# Altium footprint library RadYaab_v11.PcbLib: 44 footprints (part 1 of 3)
Each footprint in its own frame and in the unit in brackets; x right, y up, seen from the top. Pads: shape width x height; smd on the part's side, far side on the other; paste and mask are expansions set on the pad; w line width, h text height; cw(c..) or ccw(c..) is an arc to the next point about the centre after c.
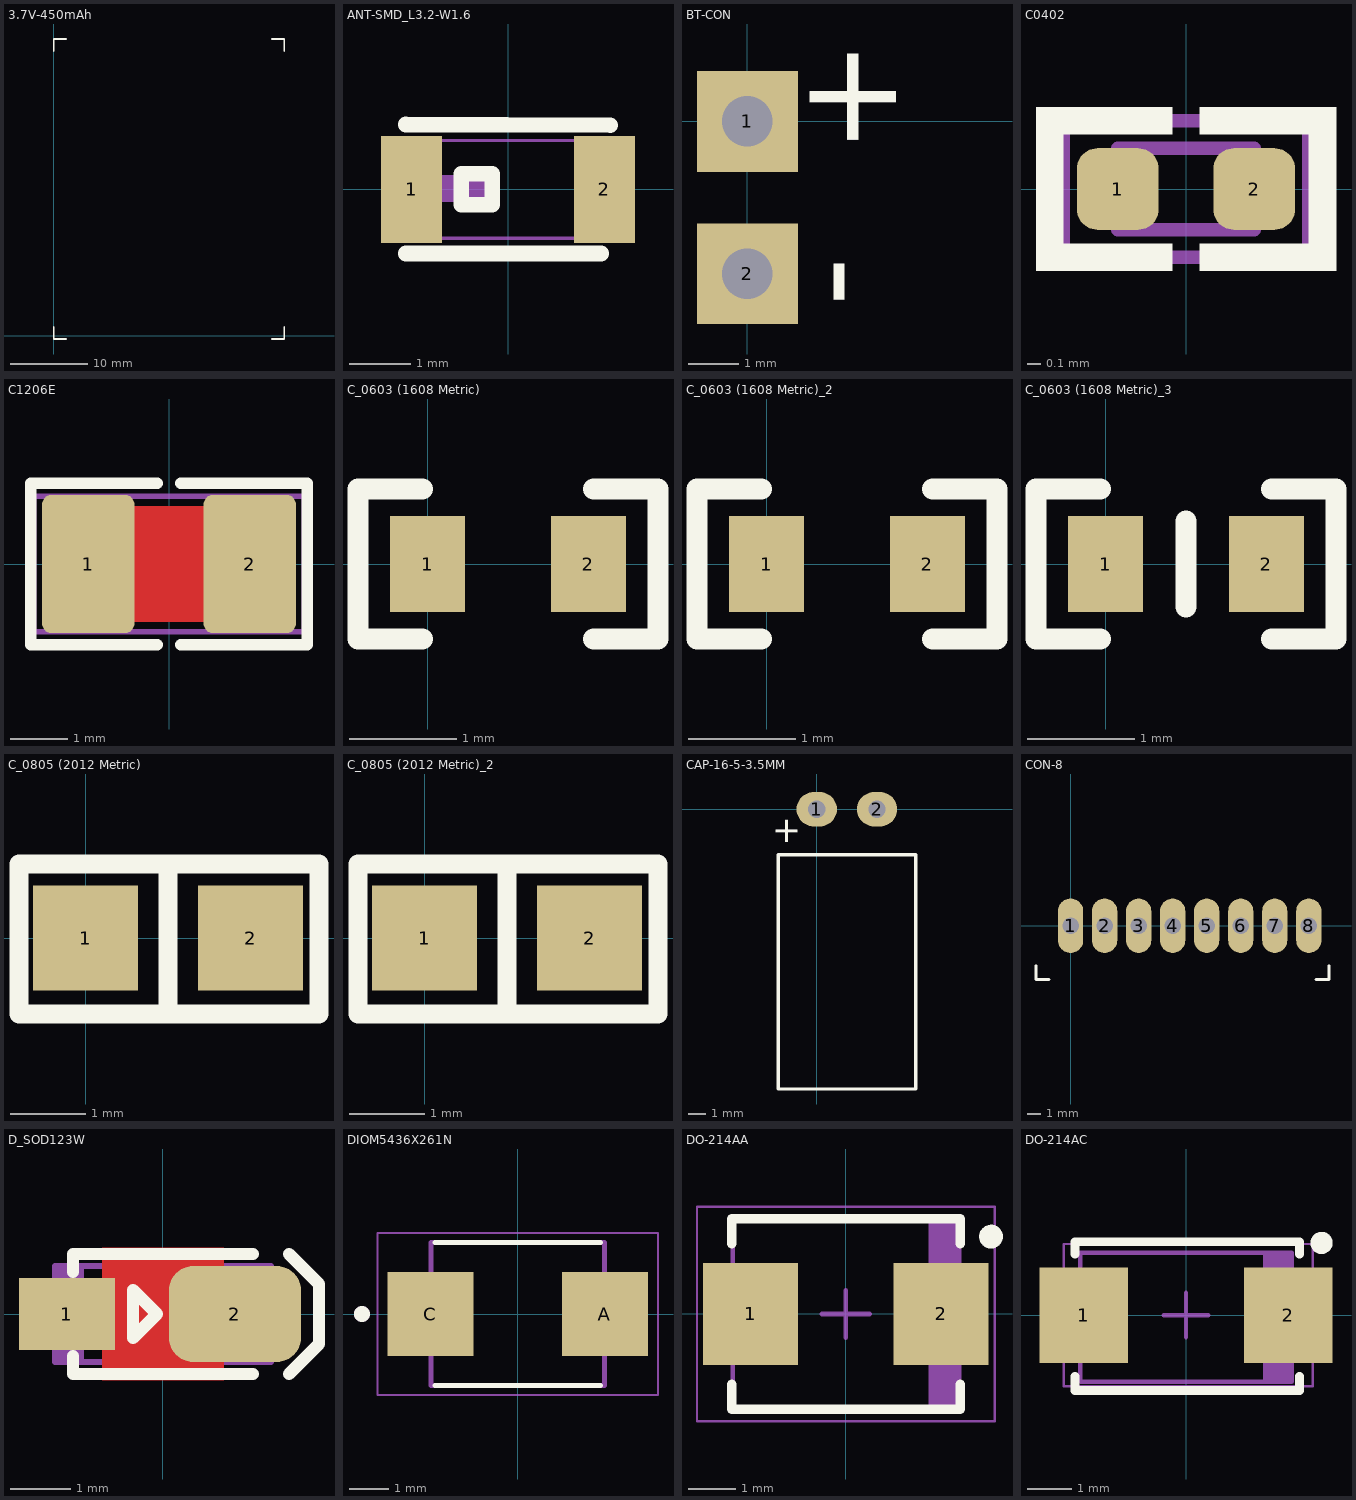
[diagram p0: the footprints below, top view; thin cyan lines are the x and y axes]

## 3.7V-450mAh [mm] "Li-Ion Battery"
height 7
Top Overlay:
  lines w0.2: 0,1.15 0,-0.45 1.6,-0.45 ; 0,37 0,38.6 1.6,38.6 ; 28.4,-0.45 30,-0.45 30,1.15 ; 28.4,38.6 30,38.6 30,37
3D body "3.7V-450mAh.STEP": height 5, standoff 0, extent 0.05,-0.2 30.05,38.4

## ANT-SMD_L3.2-W1.6 [mm]
height 1.75
pads (2):
  rect 1x1.75 smd: 1(-1.578,0) 2(1.578,0)
Top Overlay:
  lines w0.254: -1.676,-1.05 1.524,-1.05 ; -1.676,1.06 1.676,1.05 ; -0.762,-0.254 -0.762,0.254 -0.254,0.254 -0.254,-0.254 -0.762,-0.254
Mechanical 6:
  region: -1.26,0.228 -0.284,0.228 -0.284,-0.207 -1.26,-0.212 -1.26,-0.18
Mechanical 15:
  region: -1.54,-0.8 -1.54,-0.775 -1.575,-0.74 -1.625,-0.74 -1.66,-0.775 -1.66,-0.8 -1.66,-0.825 -1.625,-0.86 -1.575,-0.86 -1.54,-0.825 -1.54,-0.8
  region: 1.1,0.8 1.6,0.8 1.6,-0.8 1.1,-0.8
  region: -1.6,0.8 -1.1,0.8 -1.1,-0.8 -1.6,-0.8
  lines w0.051: -1.6,-0.8 1.6,-0.8 1.6,0.8 -1.6,0.8 -1.6,-0.8

## BT-CON [mm]
pads (2):
  rect 2x2 hole 1: 1(0,0) 2(0,-3.023)
Top Overlay:
  text "+" at 2.954,-0.66 h2
  text "-" at 2.573,-3.683 h2

## C0402 [mm] "CHIP Capacitor, 1.0X0.5mm, 0402"
height 0.4
pads (2):
  rrect50% 0.6x0.6 smd mask+0.075: 1(-0.5,0) 2(0.5,0)
Top Overlay:
  region: -0.1,-0.4 -0.1,-0.6 -1.1,-0.6 -1.1,-0.4
  region: -0.1,0.4 -0.1,0.6 -1.1,0.6 -1.1,0.4
  region: -1.1,0.6 -0.9,0.6 -0.9,-0.6 -1.1,-0.6
  region: 1.1,0.6 0.9,0.6 0.9,-0.6 1.1,-0.6
  region: 0.1,0.4 0.1,0.6 1.1,0.6 1.1,0.4
  region: 0.1,-0.4 0.1,-0.6 1.1,-0.6 1.1,-0.4
Mechanical 13:
  lines w0.1: -0.5,-0.3 0.5,-0.3 0.5,0.3 -0.5,0.3 -0.5,-0.3
Mechanical 15:
  lines w0.1: -0.9,-0.5 -0.9,0.5 0.9,0.5 0.9,-0.5 -0.9,-0.5
3D body "User Library-0402C.step": height 0.36, standoff 0, extent -0.5,-0.265 0.5,0.265

## C1206E [mm] "CHIP Capacitor, 3.2X1.6mm, 1206, EXPANDED PAD"
height 2
pads (2):
  rrect20% 1.6x2.4 smd mask+0.075: 1(-1.4,0) 2(1.4,0)
Top Layer:
  pour cut-out: -0.8,1 -0.8,-1 0.8,-1 0.8,1
Top Overlay:
  lines w0.2: -0.2,-1.4 -2.4,-1.4 -2.4,1.4 -0.2,1.4 ; 0.2,-1.4 2.4,-1.4 2.4,1.4 0.2,1.4
Mechanical 13:
  lines w0.1: -1.6,-0.8 -1.6,0.8 1.6,0.8 1.6,-0.8 -1.6,-0.8
Mechanical 15:
  lines w0.1: -0.5,0 0.5,0 ; 0,-0.5 0,0.5 ; -2.35,-1.175 -2.35,1.175 2.35,1.175 2.35,-1.175 -2.35,-1.175
3D body "User Library-CAPC3216X10.step": height 1, standoff 0, extent -1.6,-0.8 1.6,0.8

## C_0603 (1608 Metric) [mm]
height 1.1
pads (2):
  rect 0.7x0.9 smd: 1(0,0) 2(1.5,0)
Top Overlay:
  lines w0.2: -0.05,-0.7 -0.65,-0.7 -0.65,0.7 -0.05,0.7 ; 1.55,-0.7 2.15,-0.7 2.15,0.7 1.55,0.7
3D body "User Library-0603 SMD Capacitor.step": height 0.3, standoff 0, extent -0.05,-0.4 1.55,0.4

## C_0603 (1608 Metric)_2 [mm]
pads (2):
  rect 0.7x0.9 smd: 1(0,0) 2(1.5,0)
Top Overlay:
  lines w0.2: -0.05,-0.7 -0.65,-0.7 -0.65,0.7 -0.05,0.7 ; 1.55,-0.7 2.15,-0.7 2.15,0.7 1.55,0.7
3D body "User Library-0603 SMD Capacitor.step": height 0.3, standoff 0, extent -0.05,-0.4 1.55,0.4

## C_0603 (1608 Metric)_3 [mm]
pads (2):
  rect 0.7x0.9 smd: 1(0,0) 2(1.5,0)
Top Overlay:
  lines w0.2: -0.05,-0.7 -0.65,-0.7 -0.65,0.7 -0.05,0.7 ; 0.75,-0.4 0.75,0.4 ; 1.55,-0.7 2.15,-0.7 2.15,0.7 1.55,0.7
3D body "User Library-0603 SMD Capacitor.step": height 0.3, standoff 0, extent -0.05,-0.4 1.55,0.4

## C_0805 (2012 Metric) [mm]
height 1.1
pads (2):
  rect 1.4x1.4 smd: 1(0,0) 2(2.2,0)
Top Overlay:
  lines w0.254: 1.1,-1.011 1.1,0.989 ; -0.889,-1.011 0.635,-1.011 1.587,-1.011 3.111,-1.011 3.111,-0.789 3.111,0.989 1.587,0.989 0.635,0.989 -0.889,0.989 -0.889,-0.789 -0.889,-1.011
3D body "SW3dPS-0805 SMD Capacitor.STEP": height 0.78, standoff 0, extent 0.084,-0.625 2.084,0.625

## C_0805 (2012 Metric)_2 [mm]
pads (2):
  rect 1.4x1.4 smd: 1(0,0) 2(2.2,0)
Top Overlay:
  lines w0.254: 1.1,-1.011 1.1,0.989 ; -0.889,-1.011 0.635,-1.011 1.587,-1.011 3.111,-1.011 3.111,-0.789 3.111,0.989 1.587,0.989 0.635,0.989 -0.889,0.989 -0.889,-0.789 -0.889,-1.011
3D body "SW3dPS-0805 SMD Capacitor.STEP": height 0.78, standoff 0, extent 0.084,-0.625 2.084,0.625

## CAP-16-5-3.5MM [mm]
pads (2):
  oval 2.35x2 hole 1: 1(0,0) 2(3.5,0)
Top Overlay:
  lines w0.2: 5.75,-2.65 -2.25,-2.65 -2.25,-16.263 5.76,-16.263 5.76,-2.65
  text "+" at -1.1,-0.4 h1.5
3D body "CAPAER_D080_L135_P035_W006X030_CAPAER_D080_L135_P035_W006X030-2.STEP": height 4.5, standoff -3.5, extent -2.25,-16.264 5.76,0.364

## CON-8 [mm]
height 1.2
pads (8):
  oval 1.85x4 hole 1.2: 1(0,0) 2(2.5,0) 3(5,0) 4(7.5,0) 5(10,0) 6(12.5,0) 7(15,0) 8(17.5,0)
Top Overlay:
  lines w0.2: -2.546,-2.95 -2.546,-3.95 -1.596,-3.95 ; 18.034,-3.95 18.984,-3.95 18.984,-2.95
Mechanical 15:
  text "RELAY1" at 8.25,2 h1.25
  text "P+" at 0.7,2 h1.25
  text "P-" at 3.15,2 h1.25
  text "ACC" at 5.55,2 h1.25
3D body: height 0, standoff -2, extent 7.1,-0.4 7.9,0.4
3D body: height 0, standoff -2, extent 4.6,-0.4 5.4,0.4
3D body: height 0, standoff -2, extent 2.1,-0.4 2.9,0.4
3D body: height 0, standoff -2, extent -0.4,-0.4 0.4,0.4
3D body "350220008.stp": height 2.95, standoff 0, extent -2.27,-3.836 18.73,2.064

## D_SOD123W [mm] "PowerDI-123, SOD123, DO-213AA, 1206D"
height 1.95
pads (2):
  rect 1.6x1.2 smd paste-0.1 mask+0.1: 1(-1.6,0)
  rrect50% 2.2x1.6 smd paste-0.1 mask+0.1: 2(1.2,0)
Top Layer:
  pour cut-out: -1.016,1.1 -1.016,-1.1 1.016,-1.1 1.016,1.1
Top Overlay:
  lines w0.2: -1.5,-0.7 -1.5,-1 1.5,-1 ; -1.5,0.7 -1.5,1 1.5,1 ; 2.1,-1 2.6,-0.5 2.6,0.5 2.1,1 ; -0.5,-0.4 -0.5,0.4 -0.1,0 -0.5,-0.4
Mechanical 13:
  region: -1.316,0.8 -1.8,0.8 -1.8,-0.8 -1.316,-0.8
  lines w0.1: -1.8,-0.8 1.8,-0.8 1.8,0.8 -1.8,0.8 -1.8,-0.8
3D body "User Library-POWERDI-123.STEP": height 1, standoff 0, extent -1.95,-0.965 1.95,0.965

## DIOM5436X261N [mm]
height 2.61
pads (2):
  rect 2.18x2.12 smd: A(2.215,0) C(-2.215,0)
Top Overlay:
  circle w0.2: c-3.95,0 r0.1
  lines w0.127: -2.103,-1.81 2.103,-1.81 ; -2.103,1.81 2.103,1.81
Mechanical 13:
  circle w0.2: c-3.95,0 r0.1
  lines w0.127: -2.203,-1.81 -2.203,1.81 2.203,1.81 2.203,-1.81 -2.203,-1.81
Mechanical 15:
  lines w0.05: -3.56,-2.06 3.56,-2.06 3.56,2.06 -3.56,2.06 -3.56,-2.06
3D body "step_temp.STEP": height 2.65, standoff 0, extent -2.675,-1.813 2.675,1.813

## DO-214AA [mm] "DIODE SCHOTTKY 40V 2A DO214AA"
height 2.45
pads (2):
  rect 2x2.15 smd: 1(-2,0) 2(2,0)
Top Overlay:
  circle w0.25: c3.05,1.625 r0.125
  lines w0.2: -2.4,-1.475 -2.4,-2 2.4,-2 2.4,-1.475 ; -2.4,1.475 -2.4,2 2.4,2 2.4,1.475
Mechanical 13:
  rectangle: 1.736,-1.975 2.375,1.975
  lines w0.1: -2.375,-1.975 2.375,-1.975 2.375,1.975 -2.375,1.975 -2.375,-1.975
Mechanical 15:
  lines w0.05: -3.125,-2.25 3.125,-2.25 3.125,2.25 -3.125,2.25 -3.125,-2.25
  lines w0.1: -0.5,0 0.5,0 ; 0,-0.5 0,0.5
3D body "DO-214AA.step": height 2.45, standoff 0, extent -2.595,-1.975 2.595,1.975

## DO-214AC [mm] "DIODE SCHOTTKY 40V 2A DO214AA"
height 2.45
pads (2):
  rect 2x2.15 smd: 1(-2.3,0) 2(2.3,0)
Top Overlay:
  circle w0.25: c3.05,1.625 r0.125
  lines w0.2: -2.5,-1.375 -2.5,-1.7 2.55,-1.7 2.55,-1.375 ; -2.5,1.375 -2.5,1.65 2.55,1.65 2.55,1.375
Mechanical 13:
  rectangle: 1.736,-1.55 2.375,1.45
  lines w0.1: -2.375,-1.5 2.375,-1.5 2.375,1.4 -2.375,1.4 -2.375,-1.5
Mechanical 15:
  lines w0.05: -2.75,-1.6 2.85,-1.6 2.85,1.6 -2.75,1.6 -2.75,-1.6
  lines w0.1: -0.5,0 0.5,0 ; 0,-0.5 0,0.5
3D body "User Library-DO-214AC(SMA).step": height 2.29, standoff 0, extent -2.693,-1.447 2.793,1.347